# EAGLE library part ESP01 (library pixel)
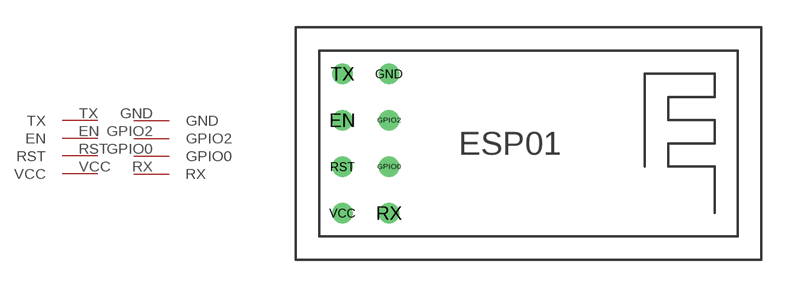
[diagram p18: symbol with the pads of ESP01; footprint ESP01]

Designator prefix -

## ESP01  [ESP01]
EN  EN
GND  GND
GPIO0  GPIO0
GPIO2  GPIO2
RST  RST
RX  RX
TX  TX
VCC  VCC

## Footprint ESP01 (pad centres in mm)
drill 0.6: EN 2.54,7.62; GND 5.08,10.16; GPIO0 5.08,5.08; GPIO2 5.08,7.62; RST 2.54,5.08; RX 5.08,2.54; TX 2.54,10.16; VCC 2.54,2.54